# EAGLE library part LT3507 (library PowerProducts)
LT-Spice library generated with : ltspice.ulp from: E:/Programme/LTC/LTspiceIV/lib/sym/PowerProducts/LT3507A*.asy at 05.10.2012 12:29:19
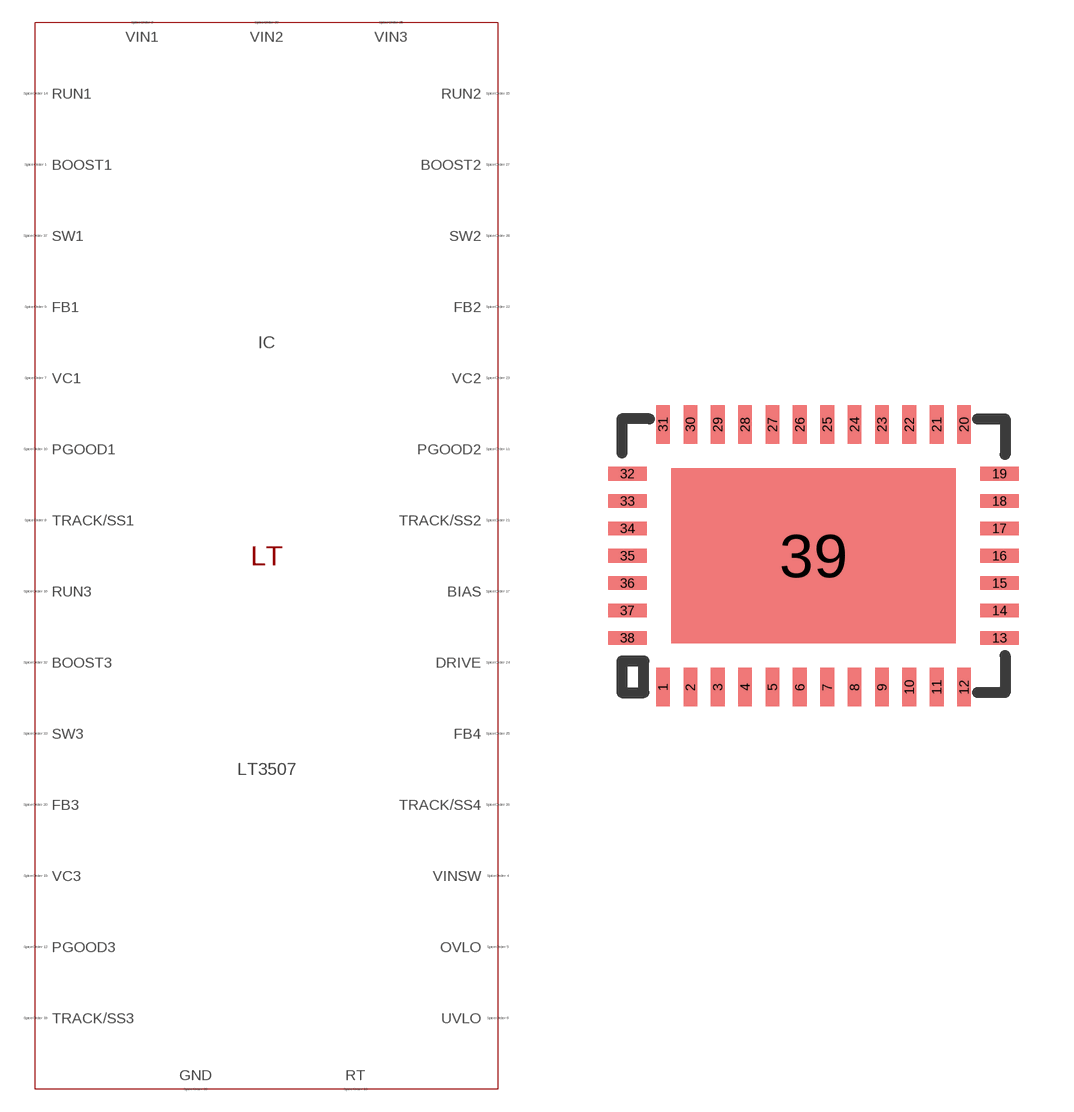
[diagram p66: symbol with the pads of QFN38(UHF); footprint QFN38(UHF)]

Designator prefix IC

## LT3507 (SPICEMODEL: LT3507.sub; SPICEPREFIX: X; VALUE2: LT3507)  [QFN38(UHF)]
1  BOOST1  pas
2  VIN1  pas
3  VIN1  pas
4  VINSW  pas
5  OVLO  pas
6  UVLO  pas
7  VC1  pas
8  TRACK/SS1  pas
9  FB1  pas
10  PGOOD1  pas
11  PGOOD2  pas
12  PGOOD3  pas
13  RT  pas
14  RUN1  pas
15  RUN2  pas
16  RUN3  pas
17  BIAS  pas
18  TRACK/SS3  pas
19  VC3  pas
20  FB3  pas
21  TRACK/SS2  pas
22  FB2  pas
23  VC2  pas
24  DRIVE  pas
25  FB4  pas
26  TRACK/SS4  pas
27  BOOST2  pas
28  SW2  pas
29  SW2  pas
30  VIN2  pas
31  VIN2  pas
32  BOOST3  pas
33  SW3  pas
34  SW3  pas
35  VIN3  pas
36  VIN3  pas
37  SW1  pas
38  SW1  pas
39  GND  pas

## Footprint QFN38(UHF) (pad centres in mm)
Package generated from: QFN38(UHF).asc (!PADS-POWERPCB-V5.0-BASIC! DESIGN DATABASE ASCII FILE 1.0) with :import-pads-powerpcb-v5.ulp Version 1.0.1 at 04.10.2012 14:11:28
smd 0.375 x 1.05: 1 -4.125,-3.6; 2 -3.375,-3.6; 3 -2.625,-3.6; 4 -1.875,-3.6; 5 -1.125,-3.6; 6 -0.375,-3.6; 7 0.375,-3.6; 8 1.125,-3.6; 9 1.875,-3.6; 10 2.625,-3.6; 11 3.375,-3.6; 12 4.125,-3.6; 20 4.125,3.6; 21 3.375,3.6; 22 2.625,3.6; 23 1.875,3.6; 24 1.125,3.6; 25 0.375,3.6; 26 -0.375,3.6; 27 -1.125,3.6; 28 -1.875,3.6; 29 -2.625,3.6; 30 -3.375,3.6; 31 -4.125,3.6
smd 1.05 x 0.375: 13 5.1,-2.25; 14 5.1,-1.5; 15 5.1,-0.75; 16 5.1,0; 17 5.1,0.75; 18 5.1,1.5; 19 5.1,2.25; 32 -5.1,2.25; 33 -5.1,1.5; 34 -5.1,0.75; 35 -5.1,0; 36 -5.1,-0.75; 37 -5.1,-1.5; 38 -5.1,-2.25
smd 7.8 x 4.8: 39 0,0